# EAGLE library part XCV1000ES_FG556 (library xilinx-xcv)
xcv1000es_fg556 edit this description Auto generated by make-symbol-device-package-bsdl.ulp Rev. 26 Source: xcv1000es_fg556.bsd
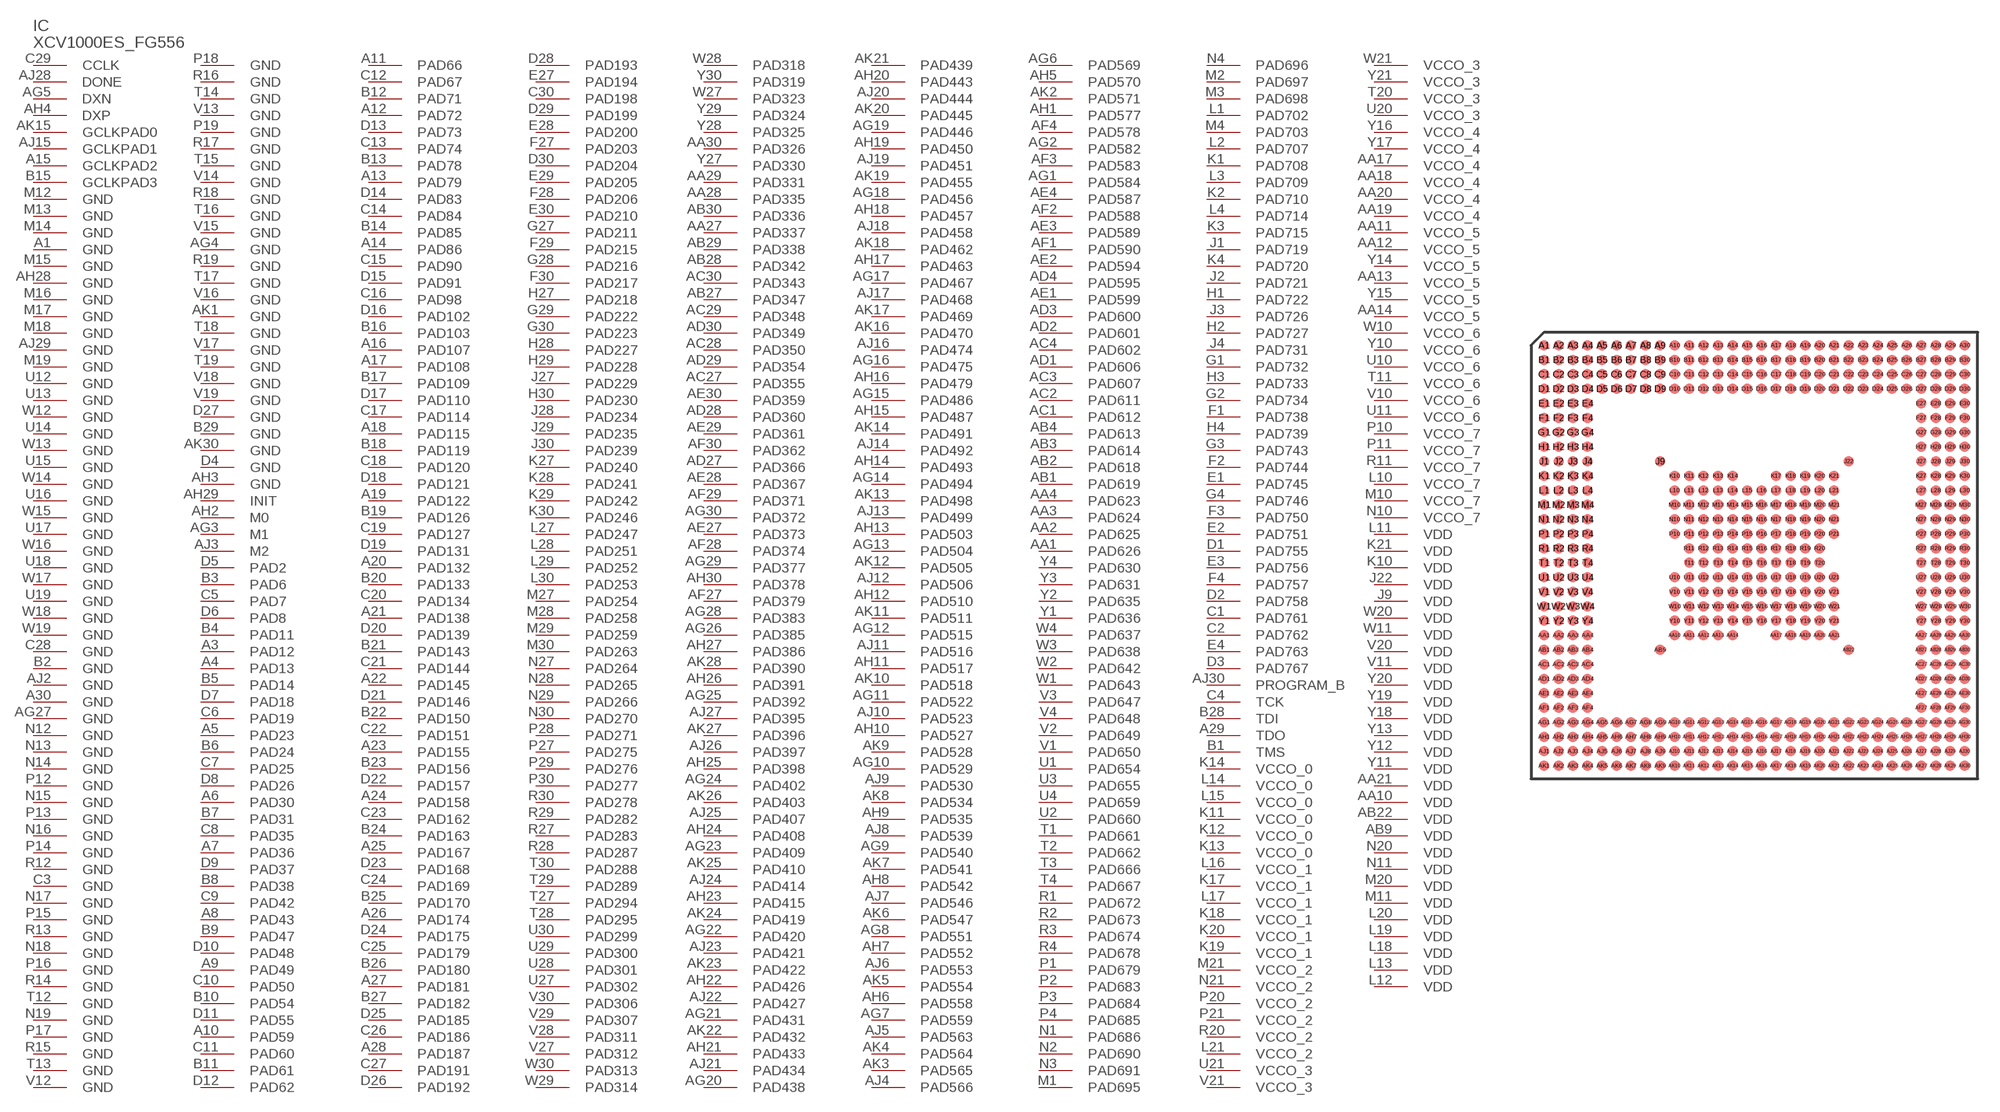
[diagram p18: symbol with the pads of FG556; footprint FG556]

Designator prefix IC

## XCV1000ES_FG556 (OC_FARNELL: unknown; OC_NEWARK: unknown)  [FG556]
A1  GND  pwr
A3  PAD12
A4  PAD13
A5  PAD23
A6  PAD30
A7  PAD36
A8  PAD43
A9  PAD49
A10  PAD59
A11  PAD66
A12  PAD72
A13  PAD79
A14  PAD86
A15  GCLKPAD2  in
A16  PAD107
A17  PAD108
A18  PAD115
A19  PAD122
A20  PAD132
A21  PAD138
A22  PAD145
A23  PAD155
A24  PAD158
A25  PAD167
A26  PAD174
A27  PAD181
A28  PAD187
A29  TDO  out
A30  GND  pwr
AA1  PAD626
AA2  PAD625
AA3  PAD624
AA4  PAD623
AA10  VDD  pwr
AA11  VCCO_5  pwr
AA12  VCCO_5  pwr
AA13  VCCO_5  pwr
AA14  VCCO_5  pwr
AA17  VCCO_4  pwr
AA18  VCCO_4  pwr
AA19  VCCO_4  pwr
AA20  VCCO_4  pwr
AA21  VDD  pwr
AA27  PAD337
AA28  PAD335
AA29  PAD331
AA30  PAD326
AB1  PAD619
AB2  PAD618
AB3  PAD614
AB4  PAD613
AB9  VDD  pwr
AB22  VDD  pwr
AB27  PAD347
AB28  PAD342
AB29  PAD338
AB30  PAD336
AC1  PAD612
AC2  PAD611
AC3  PAD607
AC4  PAD602
AC27  PAD355
AC28  PAD350
AC29  PAD348
AC30  PAD343
AD1  PAD606
AD2  PAD601
AD3  PAD600
AD4  PAD595
AD27  PAD366
AD28  PAD360
AD29  PAD354
AD30  PAD349
AE1  PAD599
AE2  PAD594
AE3  PAD589
AE4  PAD587
AE27  PAD373
AE28  PAD367
AE29  PAD361
AE30  PAD359
AF1  PAD590
AF2  PAD588
AF3  PAD583
AF4  PAD578
AF27  PAD379
AF28  PAD374
AF29  PAD371
AF30  PAD362
AG1  PAD584
AG2  PAD582
AG3  M1  in
AG4  GND  pwr
AG5  DXN  pas
AG6  PAD569
AG7  PAD559
AG8  PAD551
AG9  PAD540
AG10  PAD529
AG11  PAD522
AG12  PAD515
AG13  PAD504
AG14  PAD494
AG15  PAD486
AG16  PAD475
AG17  PAD467
AG18  PAD456
AG19  PAD446
AG20  PAD438
AG21  PAD431
AG22  PAD420
AG23  PAD409
AG24  PAD402
AG25  PAD392
AG26  PAD385
AG27  GND  pwr
AG28  PAD383
AG29  PAD377
AG30  PAD372
AH1  PAD577
AH2  M0  in
AH3  GND  pwr
AH4  DXP  pas
AH5  PAD570
AH6  PAD558
AH7  PAD552
AH8  PAD542
AH9  PAD535
AH10  PAD527
AH11  PAD517
AH12  PAD510
AH13  PAD503
AH14  PAD493
AH15  PAD487
AH16  PAD479
AH17  PAD463
AH18  PAD457
AH19  PAD450
AH20  PAD443
AH21  PAD433
AH22  PAD426
AH23  PAD415
AH24  PAD408
AH25  PAD398
AH26  PAD391
AH27  PAD386
AH28  GND  pwr
AH29  INIT
AH30  PAD378
AJ2  GND  pwr
AJ3  M2  in
AJ4  PAD566
AJ5  PAD563
AJ6  PAD553
AJ7  PAD546
AJ8  PAD539
AJ9  PAD530
AJ10  PAD523
AJ11  PAD516
AJ12  PAD506
AJ13  PAD499
AJ14  PAD492
AJ15  GCLKPAD1  in
AJ16  PAD474
AJ17  PAD468
AJ18  PAD458
AJ19  PAD451
AJ20  PAD444
AJ21  PAD434
AJ22  PAD427
AJ23  PAD421
AJ24  PAD414
AJ25  PAD407
AJ26  PAD397
AJ27  PAD395
AJ28  DONE
AJ29  GND  pwr
AJ30  PROGRAM_B  in
AK1  GND  pwr
AK2  PAD571
AK3  PAD565
AK4  PAD564
AK5  PAD554
AK6  PAD547
AK7  PAD541
AK8  PAD534
AK9  PAD528
AK10  PAD518
AK11  PAD511
AK12  PAD505
AK13  PAD498
AK14  PAD491
AK15  GCLKPAD0  in
AK16  PAD470
AK17  PAD469
AK18  PAD462
AK19  PAD455
AK20  PAD445
AK21  PAD439
AK22  PAD432
AK23  PAD422
AK24  PAD419
AK25  PAD410
AK26  PAD403
AK27  PAD396
AK28  PAD390
AK30  GND  pwr
B1  TMS  in
B2  GND  pwr
B3  PAD6
B4  PAD11
B5  PAD14
B6  PAD24
B7  PAD31
B8  PAD38
B9  PAD47
B10  PAD54
B11  PAD61
B12  PAD71
B13  PAD78
B14  PAD85
B15  GCLKPAD3  in
B16  PAD103
B17  PAD109
B18  PAD119
B19  PAD126
B20  PAD133
B21  PAD143
B22  PAD150
B23  PAD156
B24  PAD163
B25  PAD170
B26  PAD180
B27  PAD182
B28  TDI  in
B29  GND  pwr
C1  PAD761
C2  PAD762
C3  GND  pwr
C4  TCK  in
C5  PAD7
C6  PAD19
C7  PAD25
C8  PAD35
C9  PAD42
C10  PAD50
C11  PAD60
C12  PAD67
C13  PAD74
C14  PAD84
C15  PAD90
C16  PAD98
C17  PAD114
C18  PAD120
C19  PAD127
C20  PAD134
C21  PAD144
C22  PAD151
C23  PAD162
C24  PAD169
C25  PAD179
C26  PAD186
C27  PAD191
C28  GND  pwr
C29  CCLK
C30  PAD198
D1  PAD755
D2  PAD758
D3  PAD767
D4  GND  pwr
D5  PAD2
D6  PAD8
D7  PAD18
D8  PAD26
D9  PAD37
D10  PAD48
D11  PAD55
D12  PAD62
D13  PAD73
D14  PAD83
D15  PAD91
D16  PAD102
D17  PAD110
D18  PAD121
D19  PAD131
D20  PAD139
D21  PAD146
D22  PAD157
D23  PAD168
D24  PAD175
D25  PAD185
D26  PAD192
D27  GND  pwr
D28  PAD193
D29  PAD199
D30  PAD204
E1  PAD745
E2  PAD751
E3  PAD756
E4  PAD763
E27  PAD194
E28  PAD200
E29  PAD205
E30  PAD210
F1  PAD738
F2  PAD744
F3  PAD750
F4  PAD757
F27  PAD203
F28  PAD206
F29  PAD215
F30  PAD217
G1  PAD732
G2  PAD734
G3  PAD743
G4  PAD746
G27  PAD211
G28  PAD216
G29  PAD222
G30  PAD223
H1  PAD722
H2  PAD727
H3  PAD733
H4  PAD739
H27  PAD218
H28  PAD227
H29  PAD228
H30  PAD230
J1  PAD719
J2  PAD721
J3  PAD726
J4  PAD731
J9  VDD  pwr
J22  VDD  pwr
J27  PAD229
J28  PAD234
J29  PAD235
J30  PAD239
K1  PAD708
K2  PAD710
K3  PAD715
K4  PAD720
K10  VDD  pwr
K11  VCCO_0  pwr
K12  VCCO_0  pwr
K13  VCCO_0  pwr
K14  VCCO_0  pwr
K17  VCCO_1  pwr
K18  VCCO_1  pwr
K19  VCCO_1  pwr
K20  VCCO_1  pwr
K21  VDD  pwr
K27  PAD240
K28  PAD241
K29  PAD242
K30  PAD246
L1  PAD702
L2  PAD707
L3  PAD709
L4  PAD714
L10  VCCO_7  pwr
L11  VDD  pwr
L12  VDD  pwr
L13  VDD  pwr
L14  VCCO_0  pwr
L15  VCCO_0  pwr
L16  VCCO_1  pwr
L17  VCCO_1  pwr
L18  VDD  pwr
L19  VDD  pwr
L20  VDD  pwr
L21  VCCO_2  pwr
L27  PAD247
L28  PAD251
L29  PAD252
L30  PAD253
M1  PAD695
M2  PAD697
M3  PAD698
M4  PAD703
M10  VCCO_7  pwr
M11  VDD  pwr
M12  GND  pwr
M13  GND  pwr
M14  GND  pwr
M15  GND  pwr
M16  GND  pwr
M17  GND  pwr
M18  GND  pwr
M19  GND  pwr
M20  VDD  pwr
M21  VCCO_2  pwr
M27  PAD254
M28  PAD258
M29  PAD259
M30  PAD263
N1  PAD686
N2  PAD690
N3  PAD691
N4  PAD696
N10  VCCO_7  pwr
N11  VDD  pwr
N12  GND  pwr
N13  GND  pwr
N14  GND  pwr
N15  GND  pwr
N16  GND  pwr
N17  GND  pwr
N18  GND  pwr
N19  GND  pwr
N20  VDD  pwr
N21  VCCO_2  pwr
N27  PAD264
N28  PAD265
N29  PAD266
N30  PAD270
P1  PAD679
P2  PAD683
P3  PAD684
P4  PAD685
P10  VCCO_7  pwr
P11  VCCO_7  pwr
P12  GND  pwr
P13  GND  pwr
P14  GND  pwr
P15  GND  pwr
P16  GND  pwr
P17  GND  pwr
P18  GND  pwr
P19  GND  pwr
P20  VCCO_2  pwr
P21  VCCO_2  pwr
P27  PAD275
P28  PAD271
P29  PAD276
P30  PAD277
R1  PAD672
R2  PAD673
R3  PAD674
R4  PAD678
R11  VCCO_7  pwr
R12  GND  pwr
R13  GND  pwr
R14  GND  pwr
R15  GND  pwr
R16  GND  pwr
R17  GND  pwr
R18  GND  pwr
R19  GND  pwr
R20  VCCO_2  pwr
R27  PAD283
R28  PAD287
R29  PAD282
R30  PAD278
T1  PAD661
T2  PAD662
T3  PAD666
T4  PAD667
T11  VCCO_6  pwr
T12  GND  pwr
T13  GND  pwr
T14  GND  pwr
T15  GND  pwr
T16  GND  pwr
T17  GND  pwr
T18  GND  pwr
T19  GND  pwr
T20  VCCO_3  pwr
T27  PAD294
T28  PAD295
T29  PAD289
T30  PAD288
U1  PAD654
U2  PAD660
U3  PAD655
U4  PAD659
U10  VCCO_6  pwr
U11  VCCO_6  pwr
U12  GND  pwr
U13  GND  pwr
U14  GND  pwr
U15  GND  pwr
U16  GND  pwr
U17  GND  pwr
U18  GND  pwr
U19  GND  pwr
U20  VCCO_3  pwr
U21  VCCO_3  pwr
U27  PAD302
U28  PAD301
U29  PAD300
U30  PAD299
V1  PAD650
V2  PAD649
V3  PAD647
V4  PAD648
V10  VCCO_6  pwr
V11  VDD  pwr
V12  GND  pwr
V13  GND  pwr
V14  GND  pwr
V15  GND  pwr
V16  GND  pwr
V17  GND  pwr
V18  GND  pwr
V19  GND  pwr
V20  VDD  pwr
V21  VCCO_3  pwr
V27  PAD312
V28  PAD311
V29  PAD307
V30  PAD306
W1  PAD643
W2  PAD642
W3  PAD638
W4  PAD637
W10  VCCO_6  pwr
W11  VDD  pwr
W12  GND  pwr
W13  GND  pwr
W14  GND  pwr
W15  GND  pwr
W16  GND  pwr
W17  GND  pwr
W18  GND  pwr
W19  GND  pwr
W20  VDD  pwr
W21  VCCO_3  pwr
W27  PAD323
W28  PAD318
W29  PAD314
W30  PAD313
Y1  PAD636
Y2  PAD635
Y3  PAD631
Y4  PAD630
Y10  VCCO_6  pwr
Y11  VDD  pwr
Y12  VDD  pwr
Y13  VDD  pwr
Y14  VCCO_5  pwr
Y15  VCCO_5  pwr
Y16  VCCO_4  pwr
Y17  VCCO_4  pwr
Y18  VDD  pwr
Y19  VDD  pwr
Y20  VDD  pwr
Y21  VCCO_3  pwr
Y27  PAD330
Y28  PAD325
Y29  PAD324
Y30  PAD319

## Footprint FG556 (pad centres in mm)
xcv1000_fg556_1532 edit this description Auto generated by make-symbol-device-package-bsdl.ulp Rev. 26 Source: xcv1000_fg556_1532.bsd
smd 0.7 x 0.7: A1 -14.5,14.5; A2 -13.5,14.5; A3 -12.5,14.5; A4 -11.5,14.5; A5 -10.5,14.5; A6 -9.5,14.5; A7 -8.5,14.5; A8 -7.5,14.5; A9 -6.5,14.5; A10 -5.5,14.5; A11 -4.5,14.5; A12 -3.5,14.5; A13 -2.5,14.5; A14 -1.5,14.5; A15 -0.5,14.5; A16 0.5,14.5; A17 1.5,14.5; A18 2.5,14.5; A19 3.5,14.5; A20 4.5,14.5; A21 5.5,14.5; A22 6.5,14.5; A23 7.5,14.5; A24 8.5,14.5; A25 9.5,14.5; A26 10.5,14.5; A27 11.5,14.5; A28 12.5,14.5; A29 13.5,14.5; A30 14.5,14.5; AA1 -14.5,-5.5; AA2 -13.5,-5.5; AA3 -12.5,-5.5; AA4 -11.5,-5.5; AA10 -5.5,-5.5; AA11 -4.5,-5.5; AA12 -3.5,-5.5; AA13 -2.5,-5.5; AA14 -1.5,-5.5; AA17 1.5,-5.5; AA18 2.5,-5.5; AA19 3.5,-5.5; AA20 4.5,-5.5; AA21 5.5,-5.5; AA27 11.5,-5.5; AA28 12.5,-5.5; AA29 13.5,-5.5; AA30 14.5,-5.5; AB1 -14.5,-6.5; AB2 -13.5,-6.5; AB3 -12.5,-6.5; AB4 -11.5,-6.5; AB9 -6.5,-6.5; AB22 6.5,-6.5; AB27 11.5,-6.5; AB28 12.5,-6.5; AB29 13.5,-6.5; AB30 14.5,-6.5; AC1 -14.5,-7.5; AC2 -13.5,-7.5; AC3 -12.5,-7.5; AC4 -11.5,-7.5; AC27 11.5,-7.5; AC28 12.5,-7.5; AC29 13.5,-7.5; AC30 14.5,-7.5; AD1 -14.5,-8.5; AD2 -13.5,-8.5; AD3 -12.5,-8.5; AD4 -11.5,-8.5; AD27 11.5,-8.5; AD28 12.5,-8.5; AD29 13.5,-8.5; AD30 14.5,-8.5; AE1 -14.5,-9.5; AE2 -13.5,-9.5; AE3 -12.5,-9.5; AE4 -11.5,-9.5; AE27 11.5,-9.5; AE28 12.5,-9.5; AE29 13.5,-9.5; AE30 14.5,-9.5; AF1 -14.5,-10.5; AF2 -13.5,-10.5; AF3 -12.5,-10.5; AF4 -11.5,-10.5; AF27 11.5,-10.5; AF28 12.5,-10.5; AF29 13.5,-10.5; AF30 14.5,-10.5; AG1 -14.5,-11.5; AG2 -13.5,-11.5; AG3 -12.5,-11.5; AG4 -11.5,-11.5; AG5 -10.5,-11.5; AG6 -9.5,-11.5; AG7 -8.5,-11.5; AG8 -7.5,-11.5; AG9 -6.5,-11.5; AG10 -5.5,-11.5; AG11 -4.5,-11.5; AG12 -3.5,-11.5; AG13 -2.5,-11.5; AG14 -1.5,-11.5; AG15 -0.5,-11.5; AG16 0.5,-11.5; AG17 1.5,-11.5; AG18 2.5,-11.5; AG19 3.5,-11.5; AG20 4.5,-11.5; AG21 5.5,-11.5; AG22 6.5,-11.5; AG23 7.5,-11.5; AG24 8.5,-11.5; AG25 9.5,-11.5; AG26 10.5,-11.5; AG27 11.5,-11.5; AG28 12.5,-11.5; AG29 13.5,-11.5; AG30 14.5,-11.5; AH1 -14.5,-12.5; AH2 -13.5,-12.5; AH3 -12.5,-12.5; AH4 -11.5,-12.5; AH5 -10.5,-12.5; AH6 -9.5,-12.5; AH7 -8.5,-12.5; AH8 -7.5,-12.5; AH9 -6.5,-12.5; AH10 -5.5,-12.5; AH11 -4.5,-12.5; AH12 -3.5,-12.5; AH13 -2.5,-12.5; AH14 -1.5,-12.5; AH15 -0.5,-12.5; AH16 0.5,-12.5; AH17 1.5,-12.5; AH18 2.5,-12.5; AH19 3.5,-12.5; AH20 4.5,-12.5; AH21 5.5,-12.5; AH22 6.5,-12.5; AH23 7.5,-12.5; AH24 8.5,-12.5; AH25 9.5,-12.5; AH26 10.5,-12.5; AH27 11.5,-12.5; AH28 12.5,-12.5; AH29 13.5,-12.5; AH30 14.5,-12.5; AJ1 -14.5,-13.5; AJ2 -13.5,-13.5; AJ3 -12.5,-13.5; AJ4 -11.5,-13.5; AJ5 -10.5,-13.5; AJ6 -9.5,-13.5; AJ7 -8.5,-13.5; AJ8 -7.5,-13.5; AJ9 -6.5,-13.5; AJ10 -5.5,-13.5; AJ11 -4.5,-13.5; AJ12 -3.5,-13.5; AJ13 -2.5,-13.5; AJ14 -1.5,-13.5; AJ15 -0.5,-13.5; AJ16 0.5,-13.5; AJ17 1.5,-13.5; AJ18 2.5,-13.5; AJ19 3.5,-13.5; AJ20 4.5,-13.5; AJ21 5.5,-13.5; AJ22 6.5,-13.5; AJ23 7.5,-13.5; AJ24 8.5,-13.5; AJ25 9.5,-13.5; AJ26 10.5,-13.5; AJ27 11.5,-13.5; AJ28 12.5,-13.5; AJ29 13.5,-13.5; AJ30 14.5,-13.5; AK1 -14.5,-14.5; AK2 -13.5,-14.5; AK3 -12.5,-14.5; AK4 -11.5,-14.5; AK5 -10.5,-14.5; AK6 -9.5,-14.5; AK7 -8.5,-14.5; AK8 -7.5,-14.5; AK9 -6.5,-14.5; AK10 -5.5,-14.5; AK11 -4.5,-14.5; AK12 -3.5,-14.5; AK13 -2.5,-14.5; AK14 -1.5,-14.5; AK15 -0.5,-14.5; AK16 0.5,-14.5; AK17 1.5,-14.5; AK18 2.5,-14.5; AK19 3.5,-14.5; AK20 4.5,-14.5; AK21 5.5,-14.5; AK22 6.5,-14.5; AK23 7.5,-14.5; AK24 8.5,-14.5; AK25 9.5,-14.5; AK26 10.5,-14.5; AK27 11.5,-14.5; AK28 12.5,-14.5; AK29 13.5,-14.5; AK30 14.5,-14.5; B1 -14.5,13.5; B2 -13.5,13.5; B3 -12.5,13.5; B4 -11.5,13.5; B5 -10.5,13.5; B6 -9.5,13.5; B7 -8.5,13.5; B8 -7.5,13.5; B9 -6.5,13.5; B10 -5.5,13.5; B11 -4.5,13.5; B12 -3.5,13.5; B13 -2.5,13.5; B14 -1.5,13.5; B15 -0.5,13.5; B16 0.5,13.5; B17 1.5,13.5; B18 2.5,13.5; B19 3.5,13.5; B20 4.5,13.5; B21 5.5,13.5; B22 6.5,13.5; B23 7.5,13.5; B24 8.5,13.5; B25 9.5,13.5; B26 10.5,13.5; B27 11.5,13.5; B28 12.5,13.5; B29 13.5,13.5; B30 14.5,13.5; C1 -14.5,12.5; C2 -13.5,12.5; C3 -12.5,12.5; C4 -11.5,12.5; C5 -10.5,12.5; C6 -9.5,12.5; C7 -8.5,12.5; C8 -7.5,12.5; C9 -6.5,12.5; C10 -5.5,12.5; C11 -4.5,12.5; C12 -3.5,12.5; C13 -2.5,12.5; C14 -1.5,12.5; C15 -0.5,12.5; C16 0.5,12.5; C17 1.5,12.5; C18 2.5,12.5; C19 3.5,12.5; C20 4.5,12.5; C21 5.5,12.5; C22 6.5,12.5; C23 7.5,12.5; C24 8.5,12.5; C25 9.5,12.5; C26 10.5,12.5; C27 11.5,12.5; C28 12.5,12.5; C29 13.5,12.5; C30 14.5,12.5; D1 -14.5,11.5; D2 -13.5,11.5; D3 -12.5,11.5; D4 -11.5,11.5; D5 -10.5,11.5; D6 -9.5,11.5; D7 -8.5,11.5; D8 -7.5,11.5; D9 -6.5,11.5; D10 -5.5,11.5; D11 -4.5,11.5; D12 -3.5,11.5; D13 -2.5,11.5; D14 -1.5,11.5; D15 -0.5,11.5; D16 0.5,11.5; D17 1.5,11.5; D18 2.5,11.5; D19 3.5,11.5; D20 4.5,11.5; D21 5.5,11.5; D22 6.5,11.5; D23 7.5,11.5; D24 8.5,11.5; D25 9.5,11.5; D26 10.5,11.5; D27 11.5,11.5; D28 12.5,11.5; D29 13.5,11.5; D30 14.5,11.5; E1 -14.5,10.5; E2 -13.5,10.5; E3 -12.5,10.5; E4 -11.5,10.5; E27 11.5,10.5; E28 12.5,10.5; E29 13.5,10.5; E30 14.5,10.5; F1 -14.5,9.5; F2 -13.5,9.5; F3 -12.5,9.5; F4 -11.5,9.5; F27 11.5,9.5; F28 12.5,9.5; F29 13.5,9.5; F30 14.5,9.5; G1 -14.5,8.5; G2 -13.5,8.5; G3 -12.5,8.5; G4 -11.5,8.5; G27 11.5,8.5; G28 12.5,8.5; G29 13.5,8.5; G30 14.5,8.5; H1 -14.5,7.5; H2 -13.5,7.5; H3 -12.5,7.5; H4 -11.5,7.5; H27 11.5,7.5; H28 12.5,7.5; H29 13.5,7.5; H30 14.5,7.5; J1 -14.5,6.5; J2 -13.5,6.5; J3 -12.5,6.5; J4 -11.5,6.5; J9 -6.5,6.5; J22 6.5,6.5; J27 11.5,6.5; J28 12.5,6.5; J29 13.5,6.5; J30 14.5,6.5; K1 -14.5,5.5; K2 -13.5,5.5; K3 -12.5,5.5; K4 -11.5,5.5; K10 -5.5,5.5; K11 -4.5,5.5; K12 -3.5,5.5; K13 -2.5,5.5; K14 -1.5,5.5; K17 1.5,5.5; K18 2.5,5.5; K19 3.5,5.5; K20 4.5,5.5; K21 5.5,5.5; K27 11.5,5.5; K28 12.5,5.5; K29 13.5,5.5; K30 14.5,5.5; L1 -14.5,4.5; L2 -13.5,4.5; L3 -12.5,4.5; L4 -11.5,4.5; L10 -5.5,4.5; L11 -4.5,4.5; L12 -3.5,4.5; L13 -2.5,4.5; L14 -1.5,4.5; L15 -0.5,4.5; L16 0.5,4.5; L17 1.5,4.5; L18 2.5,4.5; L19 3.5,4.5; L20 4.5,4.5; L21 5.5,4.5; L27 11.5,4.5; L28 12.5,4.5; L29 13.5,4.5; L30 14.5,4.5; M1 -14.5,3.5; M2 -13.5,3.5; M3 -12.5,3.5; M4 -11.5,3.5; M10 -5.5,3.5; M11 -4.5,3.5; M12 -3.5,3.5; M13 -2.5,3.5; M14 -1.5,3.5; M15 -0.5,3.5; M16 0.5,3.5; M17 1.5,3.5; M18 2.5,3.5; M19 3.5,3.5; M20 4.5,3.5; M21 5.5,3.5; M27 11.5,3.5; M28 12.5,3.5; M29 13.5,3.5; M30 14.5,3.5; N1 -14.5,2.5; N2 -13.5,2.5; N3 -12.5,2.5; N4 -11.5,2.5; N10 -5.5,2.5; N11 -4.5,2.5; N12 -3.5,2.5; N13 -2.5,2.5; N14 -1.5,2.5; N15 -0.5,2.5; N16 0.5,2.5; N17 1.5,2.5; N18 2.5,2.5; N19 3.5,2.5; N20 4.5,2.5; N21 5.5,2.5; N27 11.5,2.5; N28 12.5,2.5; N29 13.5,2.5; N30 14.5,2.5; P1 -14.5,1.5; P2 -13.5,1.5; P3 -12.5,1.5; P4 -11.5,1.5; P10 -5.5,1.5; P11 -4.5,1.5; P12 -3.5,1.5; P13 -2.5,1.5; P14 -1.5,1.5; P15 -0.5,1.5; P16 0.5,1.5; P17 1.5,1.5; P18 2.5,1.5; P19 3.5,1.5; P20 4.5,1.5; P21 5.5,1.5; P27 11.5,1.5; P28 12.5,1.5; P29 13.5,1.5; P30 14.5,1.5; R1 -14.5,0.5; R2 -13.5,0.5; R3 -12.5,0.5; R4 -11.5,0.5; R11 -4.5,0.5; R12 -3.5,0.5; R13 -2.5,0.5; R14 -1.5,0.5; R15 -0.5,0.5; R16 0.5,0.5; R17 1.5,0.5; R18 2.5,0.5; R19 3.5,0.5; R20 4.5,0.5; R27 11.5,0.5; R28 12.5,0.5; R29 13.5,0.5; R30 14.5,0.5; T1 -14.5,-0.5; T2 -13.5,-0.5; T3 -12.5,-0.5; T4 -11.5,-0.5; T11 -4.5,-0.5; T12 -3.5,-0.5; T13 -2.5,-0.5; T14 -1.5,-0.5; T15 -0.5,-0.5; T16 0.5,-0.5; T17 1.5,-0.5; T18 2.5,-0.5; T19 3.5,-0.5; T20 4.5,-0.5; T27 11.5,-0.5; T28 12.5,-0.5; T29 13.5,-0.5; T30 14.5,-0.5; U1 -14.5,-1.5; U2 -13.5,-1.5; U3 -12.5,-1.5; U4 -11.5,-1.5; U10 -5.5,-1.5; U11 -4.5,-1.5; U12 -3.5,-1.5; U13 -2.5,-1.5; U14 -1.5,-1.5; U15 -0.5,-1.5; U16 0.5,-1.5; U17 1.5,-1.5; U18 2.5,-1.5; U19 3.5,-1.5; U20 4.5,-1.5; U21 5.5,-1.5; U27 11.5,-1.5; U28 12.5,-1.5; U29 13.5,-1.5; U30 14.5,-1.5; V1 -14.5,-2.5; V2 -13.5,-2.5; V3 -12.5,-2.5; V4 -11.5,-2.5; V10 -5.5,-2.5; V11 -4.5,-2.5; V12 -3.5,-2.5; V13 -2.5,-2.5; V14 -1.5,-2.5; V15 -0.5,-2.5; V16 0.5,-2.5; V17 1.5,-2.5; V18 2.5,-2.5; V19 3.5,-2.5; V20 4.5,-2.5; V21 5.5,-2.5; V27 11.5,-2.5; V28 12.5,-2.5; V29 13.5,-2.5; V30 14.5,-2.5; W1 -14.5,-3.5; W2 -13.5,-3.5; W3 -12.5,-3.5; W4 -11.5,-3.5; W10 -5.5,-3.5; W11 -4.5,-3.5; W12 -3.5,-3.5; W13 -2.5,-3.5; W14 -1.5,-3.5; W15 -0.5,-3.5; W16 0.5,-3.5; W17 1.5,-3.5; W18 2.5,-3.5; W19 3.5,-3.5; W20 4.5,-3.5; W21 5.5,-3.5; W27 11.5,-3.5; W28 12.5,-3.5; W29 13.5,-3.5; W30 14.5,-3.5; Y1 -14.5,-4.5; Y2 -13.5,-4.5; Y3 -12.5,-4.5; Y4 -11.5,-4.5; Y10 -5.5,-4.5; Y11 -4.5,-4.5; Y12 -3.5,-4.5; Y13 -2.5,-4.5; Y14 -1.5,-4.5; Y15 -0.5,-4.5; Y16 0.5,-4.5; Y17 1.5,-4.5; Y18 2.5,-4.5; Y19 3.5,-4.5; Y20 4.5,-4.5; Y21 5.5,-4.5; Y27 11.5,-4.5; Y28 12.5,-4.5; Y29 13.5,-4.5; Y30 14.5,-4.5